# EAGLE library part LM46002AQPWPRQ1 (library ruark2)
Buck Switching Regulator IC Positive Adjustable 1V 1 Output 2A 16-TSSOP (0.173", 4.40mm Width) Exposed Pad 60V
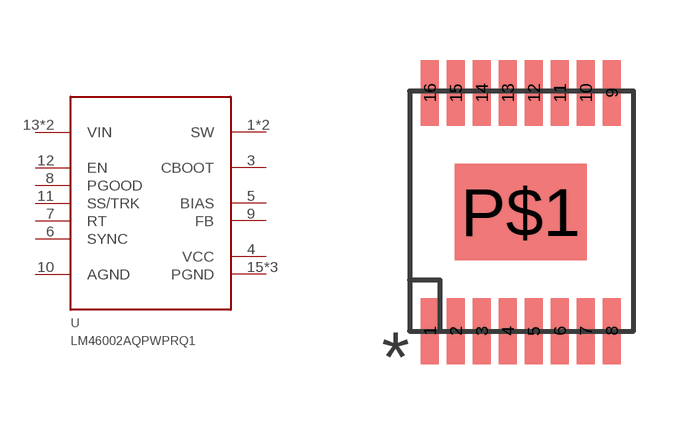
[diagram p121: symbol with the pads of TSSOP16-POWER; footprint TSSOP16-POWER]

Designator prefix U

## LM46002AQPWPRQ1 (PARTNO: 296-48923-1-ND)  [TSSOP16-POWER]
1  SW
2  SW
3  CBOOT
4  VCC
5  BIAS
6  SYNC
7  RT
8  PGOOD
9  FB
10  AGND
11  SS/TRK
12  EN
13  VIN
14  VIN
15  PGND
16  PGND
P$1  PGND

## Footprint TSSOP16-POWER (pad centres in mm)
smd 0.45 x 1.65: 1 -2.275,-2.975; 2 -1.625,-2.975; 3 -0.975,-2.975; 4 -0.325,-2.975; 5 0.325,-2.975; 6 0.975,-2.975; 7 1.625,-2.975; 8 2.275,-2.975; 9 2.275,2.975; 10 1.625,2.975; 11 0.975,2.975; 12 0.325,2.975; 13 -0.325,2.975; 14 -0.975,2.975; 15 -1.625,2.975; 16 -2.275,2.975
smd 3.29 x 2.41: P$1 0,0